# Altium schematic symbol library RES_1.5K.SCHLIB: 1 symbol
Pins are listed as number, name and electrical type; pins without a type are passive.

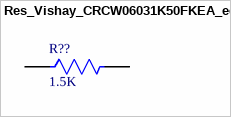
[diagram p0: symbol Res_Vishay_CRCW06031K50FKEA_eec]

## Res_Vishay_CRCW06031K50FKEA_eec
designator R??  Resistance: 1.5K  (hidden comment: Res_Vishay_CRCW06031K50FKEA_eec)
RES 1.5k Ohm ±1% 0.1W, 1/10W Chip Resistor 0603 (1608 Metric) Automotive AEC-Q200 Thick Film; Manufacturer: Vishay; Voltage: 75V; Temperature Coefficient: ±100ppm/°C; Power: 100mW; Part Number: CRCW06031K50FKEA; helpURL: https://upverter.com/upn/revision/92de3c491728bf4e/; ComponentLink2Description: Datasheet; Temperature: -55°C to +155°C; Package: 0603 (1608 metric); Supplier 2: Mouser; Price: 0.0140695309128; Supplier 1: Digi-Key; ComponentLink1URL: https://upverter.com/upn/revision/92de3c491728bf4e/; Supplier Part Number 2: 71-CRCW0603-1.5K-E3; Supplier Part Number 1: 541-1.50KHCT-ND; Value: 1.5K; ComponentLink1Description: Upverter; ComponentLink2URL: http://www.vishay.com/docs/20035/dcrcwe3.pdf; RoHS: TRUE; Mouser Part Number: 71-CRCW0603-1.5K-E3; Ipc Land Pattern Name: RESC16080X45; Tolerance: ±1%; Temperature Range High: +155°C; Digikey Description: RES 1.5k Ohm ±1% 0.1W, 1/10W Chip Resistor 0603 (1608 Metric) Automotive AEC-Q200 Thick Film; Digikey Part Number: 541-1.50KHCT-ND; Lead Free: yes; Temperature Range Low: -55°C
footprint RESC1609X50X30LL10T20
pins: 1, 2